# EAGLE library part MAG3110 (library Kas-Sensors)
MAG3110 Magnotometer MAG3110: Xtrinsic High Accuracy, 3D Magnetometer
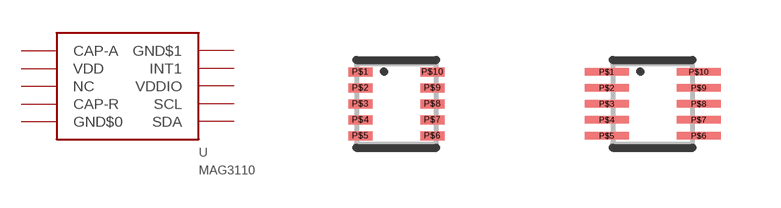
[diagram p8: symbol with the pads of DFN-10(2X2); footprints DFN-10(2X2), DFN-10(2X2)_HS]

Designator prefix U

## MAG3110  [DFN-10(2X2)]
P$1  CAP-A
P$2  VDD
P$3  NC
P$4  CAP-R
P$5  GND$0
P$6  SDA
P$7  SCL
P$8  VDDIO
P$9  INT1
P$10  GND$1

## MAG3110_HS  [DFN-10(2X2)_HS]
Pads as for DFN-10(2X2)

## Footprint DFN-10(2X2) (pad centres in mm)
smd 0.6 x 0.225: P$1 -0.9,0.8; P$2 -0.9,0.4; P$3 -0.9,0; P$4 -0.9,-0.4; P$5 -0.9,-0.8; P$6 0.9,-0.8; P$7 0.9,-0.4; P$8 0.9,0; P$9 0.9,0.4; P$10 0.9,0.8

## Footprint DFN-10(2X2)_HS (pad centres in mm)
7.85827 x 43.30709 should be 8.85827 x 43.30709
smd 1.1 x 0.2: P$1 -1.15,0.8; P$2 -1.15,0.4; P$3 -1.15,0; P$4 -1.15,-0.4; P$5 -1.15,-0.8; P$6 1.15,-0.8; P$7 1.15,-0.4; P$8 1.15,0; P$9 1.15,0.4; P$10 1.15,0.8